# Altium schematic symbol library LDO.SchLib: 8 symbols
Pins are listed as number, name and electrical type; pins without a type are passive.

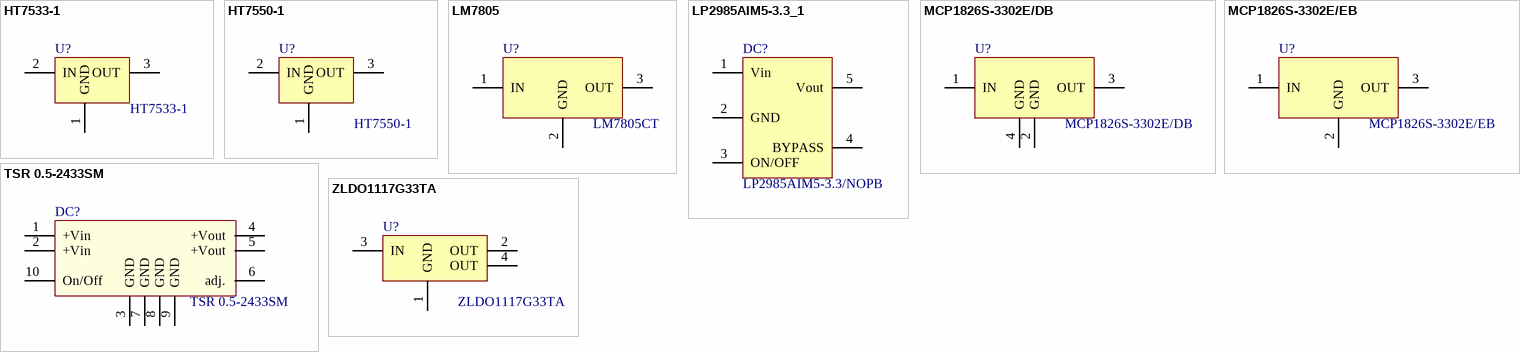
[diagram p0: symbols HT7533-1 to ZLDO1117G33TA]

## HT7533-1
designator U?
LDO 3.3V 100mA SOT89; Manufacturer: Holtek; Manufacturer Part Number: HT7533-1; ComponentLink1URL: https://datasheet.lcsc.com/szlcsc/1812071811_Holtek-Semicon-HT7533-1_C14289.pdf; ComponentLink1Description: Datasheet; ComponentLink2Description: Manufacturer; ComponentLink2URL: https://www.holtek.com/productdetail/-/vg/75xx_1; Type: LDO; Value: 3.3V; Supplier 1: RSComponents; Supplier Part Number 1: 8850721; Supplier 2: JLCPCB; Supplier Part Number 2: C14289; Supplier Footprint 2: SOT-89-3
footprint SOT89-150P350X160-3N (SOT89, 3-Leads, Body 4.5x4.1mm, Pitch 1.5mm, Lead Span 1.05mm, IPC Medium Density)
pins: 1 GND (power), 2 IN (power), 3 OUT (power)

## HT7550-1
designator U?
LDO 5.0V 150mA SOT89; Manufacturer: Holtek; Manufacturer Part Number: HT7550-1; ComponentLink1URL: https://datasheet.lcsc.com/szlcsc/1812071811_Holtek-Semicon-HT7533-1_C14289.pdf; ComponentLink1Description: Datasheet; ComponentLink2Description: Manufacturer; ComponentLink2URL: https://www.holtek.com/productdetail/-/vg/75xx_1; Type: LDO; Value: 5.0V; Supplier 2: JLCPCB; Supplier Part Number 2: C16106; Supplier 1: RSComponents; Supplier Part Number 1: 8850737; Supplier Footprint 2: SOT-89-3
footprint SOT89-150P350X160-3N (SOT89, 3-Leads, Body 4.5x4.1mm, Pitch 1.5mm, Lead Span 1.05mm, IPC Medium Density)
pins: 1 GND (power), 2 IN (power), 3 OUT (power)

## LM7805
designator U?, comment LM7805CT
LDO 5V 1A TO-220; Manufacturer: FAIRCHILD; Value: 5.0V; Manufacturer Part Number: LM7805CT; ComponentLink1URL: http://www.farnell.com/datasheets/2161191.pdf; ComponentLink1Description: http://www.farnell.com/datasheets/2161191.pdf; Supplier 1: Farnell; Supplier Part Number 1: 1102157
footprint LM78xx
pins: 1 IN (power), 2 GND (power), 3 OUT (power)

## LP2985AIM5-3.3_1
designator DC?, comment LP2985AIM5-3.3/NOPB
LDO 3.3V 0.15A 1% SOT23-5; Manufacturer: TEXAS INSTRUMENTS; ComponentLink1Description: Datasheet; ComponentLink1URL: http://www.farnell.com/datasheets/1882537.pdf; Manufacturer Part Number: LP2985AIM5-3.3/NOPB; Supplier 1: Farnell; Supplier Part Number 1: 1469134; Value: 3.3V
footprint SOT23_95P280X145-5N (SOT23, 5-Leads, Body 3,1x3,2mm (max), Pitch 0,95mm, IPC Medium Densit)
pins: 1 Vin (power), 2 GND (power), 3 ON/OFF (power), 4 BYPASS (power), 5 Vout (power)

## MCP1826S-3302E/DB
designator U?
LDO 3.3V 1A SOT223-3; Manufacturer: MICROCHIP; Manufacturer Part Number: MCP1826S-3302E/DB; ComponentLink1URL: http://www.farnell.com/datasheets/1769092.pdf; ComponentLink1Description: http://www.farnell.com/datasheets/1769092.pdf; Supplier 1: Farnell; Supplier Part Number 1: 1578424; Value: 3.3V
footprint SOT223 (SOT223, 4-Leads, Body 6,7x7,3mm (max), Pitch 2,30mm, IPC Medium Density)
pins: 1 IN (power), 2 GND (power), 3 OUT (power), 4 GND (power)

## MCP1826S-3302E/EB
designator U?
LDO 3.3V 1A TO-D2PAK; Manufacturer: MICROCHIP; Manufacturer Part Number: MCP1826S-3302E/EB; ComponentLink1URL: http://fr.rs-online.com/webdocs/137e/0900766b8137eda8.pdf; ComponentLink1Description: http://fr.rs-online.com/webdocs/137e/0900766b8137eda8.pdf; Supplier 1: RS; Supplier Part Number 1: 669-5187; Value: 3.3V
footprint MCP1826S-DDPAK
pins: 1 IN (power), 2 GND (power), 3 OUT (power)

## TSR 0.5-2433SM
designator DC?
LDO 3.3V 0,5A, with EN/TRIM; Manufacturer: TRACOPOWER; ComponentLink1Description: Datasheet; ComponentLink1URL: https://www.tracopower.com/sites/default/files/products/datasheets/tsr0_5sm_datasheet.pdf; Manufacturer Part Number: TSR 0.5-2433SM; Supplier 1: Farnell; Supplier Part Number 1: 2848967; Value: 3.3V
pins: 1 +Vin (power), 2 +Vin (power), 3 GND (power), 4 +Vout (power), 5 +Vout (power), 6 adj. (power), 7 GND (power), 8 GND (power), 9 GND (power), 10 On/Off (power)

## ZLDO1117G33TA
designator U?
LDO 3.3V 1A SOT223-3; Manufacturer: Diodes Inc.; Manufacturer Part Number: ZLDO1117G33TA; ComponentLink1URL: http://www.farnell.com/datasheets/1769101.pdf; ComponentLink1Description: Datasheet; ComponentLink2Description: Manufacturer; ComponentLink2URL: https://www.diodes.com/part/view/ZLDO1117; Type: LDO; Value: 3.3V; Supplier 2: JLCPCB; Supplier Part Number 2: C6186; Supplier 1: Farnell; Supplier Part Number 1: 1825376; Supplier Footprint 2: SOT-223
footprint SOT223 (SOT223, 4-Leads, Body 6,7x7,3mm (max), Pitch 2,30mm, IPC Medium Density)
pins: 1 GND (power), 2 OUT (power), 3 IN (power), 4 OUT (power)